# Altium footprint library benchtoppcblib.PcbLib: 18 footprints (part 1 of 2)
Each footprint in its own frame and in the unit in brackets; x right, y up, seen from the top. Pads: shape width x height; smd on the part's side, far side on the other; paste and mask are expansions set on the pad; w line width, h text height; cw(c..) or ccw(c..) is an arc to the next point about the centre after c.
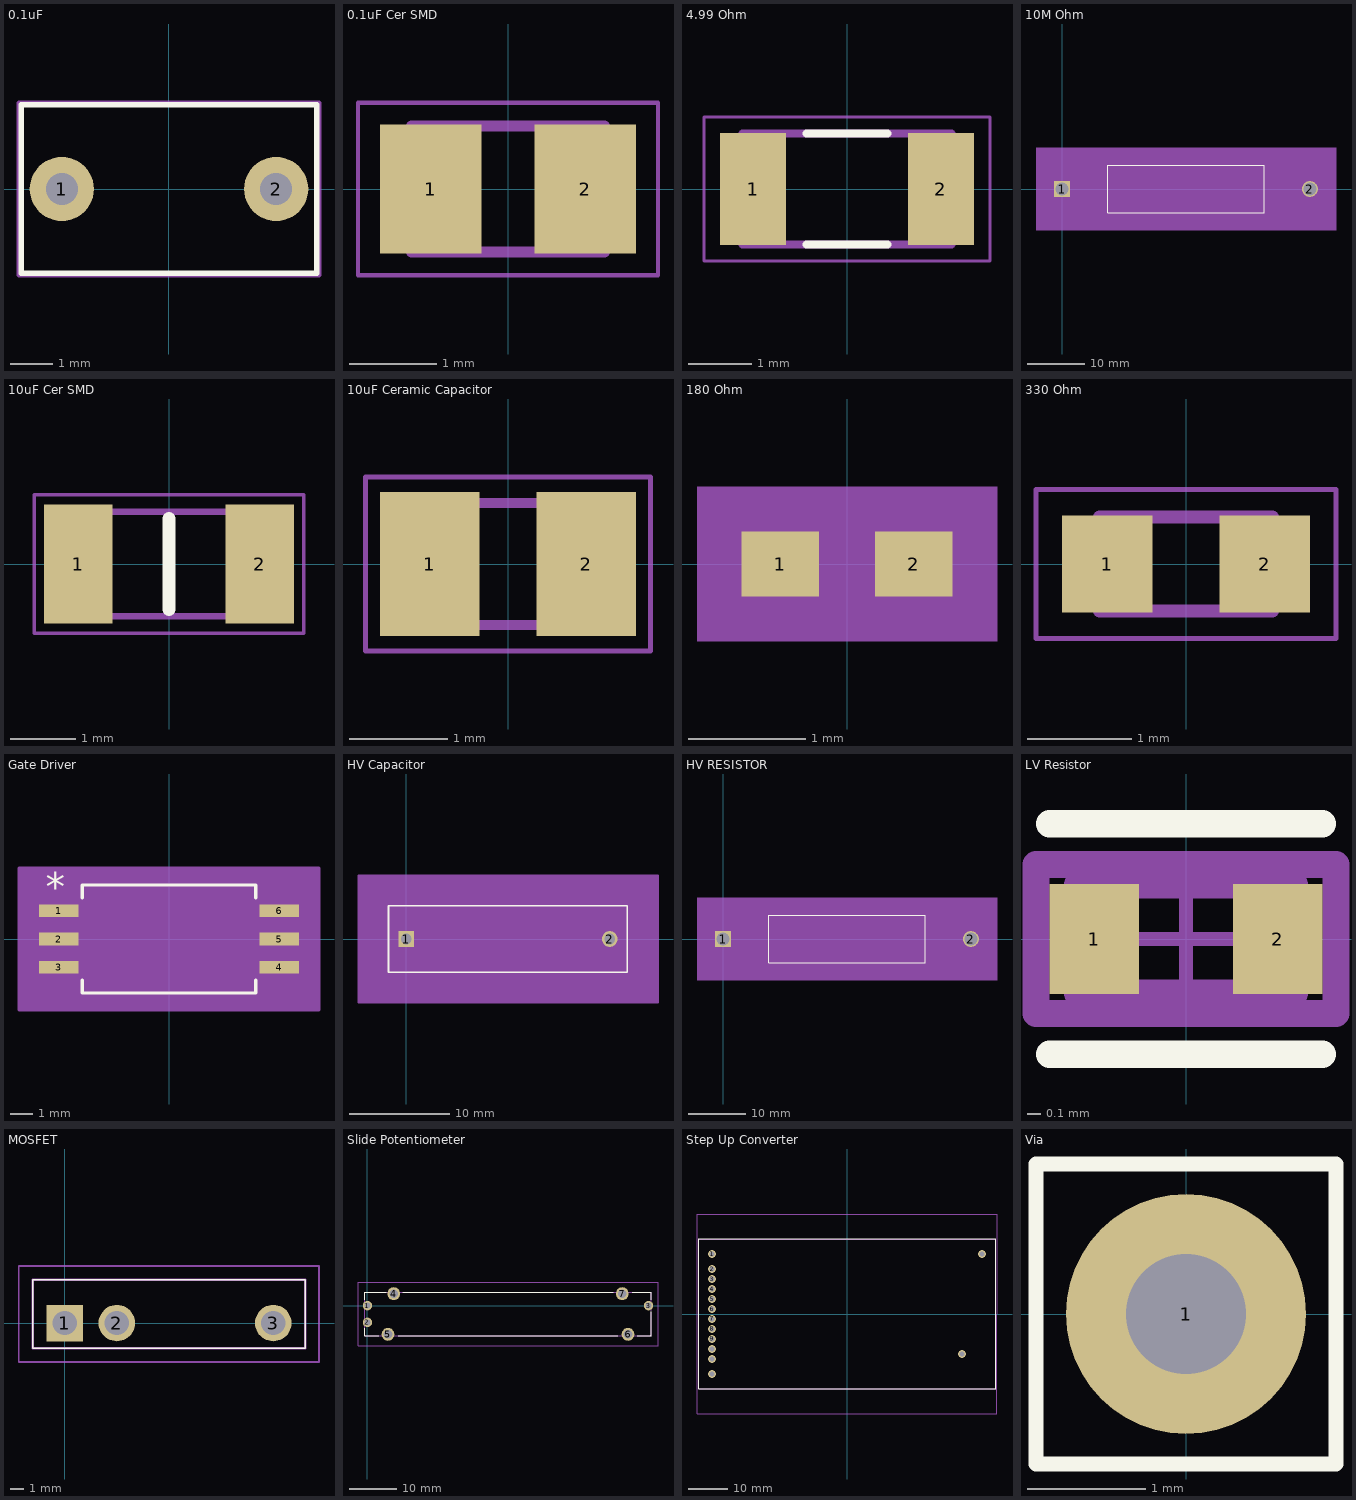
[diagram p0: the footprints below, top view; thin cyan lines are the x and y axes]

## 0.1uF [mil] "C322C104K5R5TA7305"
pads (2):
  round 60 hole 30: 1(-100,0) 2(100,0)
Top Overlay:
  lines w5: -137.8,-78.74 -137.8,78.74 137.8,78.74 137.8,-78.74 -137.8,-78.74
Mechanical 7:
  lines w5: -139.96,-80.12 -139.96,80.12 139.96,80.12 139.96,-80.12 -139.96,-80.12

## 0.1uF Cer SMD [mm] "CAPC2012X94N"
pads (2):
  rect 1.16x1.47 smd: 1(-0.88,0) 2(0.88,0)
Mechanical 13:
  lines w0.127: -1.1,-0.72 -1.1,0.72 1.1,0.72 1.1,-0.72 -1.1,-0.72
Mechanical 15:
  lines w0.05: -1.713,-0.983 -1.713,0.983 1.713,0.983 1.713,-0.983 -1.713,-0.983
3D body "step_temp.STEP": height 0.94, standoff 0, extent -1.005,-0.625 1.005,0.625

## 4.99 Ohm [mm] "RESC3116X65N"
pads (2):
  rect 1.05x1.77 smd: 1(-1.485,0) 2(1.485,0)
Top Overlay:
  lines w0.127: -0.64,-0.88 0.64,-0.88 ; -0.64,0.88 0.64,0.88
Mechanical 13:
  lines w0.127: -1.65,-0.88 1.65,-0.88 1.65,0.88 -1.65,0.88 -1.65,-0.88
Mechanical 15:
  lines w0.05: -2.26,-1.135 2.26,-1.135 2.26,1.135 -2.26,1.135 -2.26,-1.135
3D body "step_temp.STEP": height 0.65, standoff 0, extent -1.6,-0.8 1.6,0.8

## 10M Ohm [mil] "OH_MOX910_OHM"
pads (2):
  rect 110x110 hole 90 mask+0: 1(0,0)
  round 110 hole 90 mask+0: 2(1710,0)
Top Overlay:
  lines w6: 315,-165 1395,-165 1395,165 315,165 315,-165
Mechanical 5:
  region: 1890,-285 -180,-285 -180,285 1890,285
Mechanical 13:
  lines w1: 0,0 320,0 ; 1390,0 1710,0 ; 320,-160 1390,-160 1390,160 320,160 320,-160
Mechanical 15:
  region: 310,-65 -65,-65 -65,65 310,65 310,170 1400,170 1400,65 1775,65 1775,-65 1400,-65 1400,-170 310,-170
  lines w6: -65,-65 -65,65 310,65 310,170 1400,170 1400,65 1775,65 1775,-65 1400,-65 1400,-170 310,-170 310,-65 -65,-65
3D body: height 10, standoff 0, extent 0,0 10,10

## 10uF Cer SMD [mm] "CAPC3216X180N"
pads (2):
  rect 1.05x1.82 smd: 1(-1.39,0) 2(1.39,0)
Top Overlay:
  lines w0.2: 0,-0.7 0,0.7
Mechanical 13:
  lines w0.1: -1.6,-0.8 1.6,-0.8 1.6,0.8 -1.6,0.8 -1.6,-0.8
Mechanical 15:
  lines w0.05: -2.065,-1.06 2.065,-1.06 2.065,1.06 -2.065,1.06 -2.065,-1.06
3D body "CL31B106KQHNFNE.stp": height 1.8, standoff 0, extent -1.6,-0.8 1.6,0.8

## 10uF Ceramic Capacitor [mm] "C0805C106K3PAC7800"
pads (2):
  rect 1.02x1.47 smd: 1(-0.8,0) 2(0.8,0)
Mechanical 13:
  lines w0.1: -1,-0.625 1,-0.625 1,0.625 -1,0.625 -1,-0.625
Mechanical 15:
  lines w0.05: -1.46,-0.89 1.46,-0.89 1.46,0.89 -1.46,0.89 -1.46,-0.89
3D body "C0805C106K3PACTU.stp": height 1.45, standoff 0, extent -1,-0.625 1,0.625

## 180 Ohm [mil] "RES_RK73H1E_KOA"
pads (2):
  rect 26x22 smd paste+0 mask+0: 1(-22.5,0) 2(22.5,0)
Mechanical 5:
  region: 50.5,-26 -50.5,-26 -50.5,26 50.5,26
Mechanical 13:
  lines w1: -21.5,-11 -21.5,11 ; -21.5,-11 -9.5,-11 -9.5,11 -21.5,11 ; -21.5,-11 21.5,-11 ; -21.5,-11 -21.5,11 ; -21.5,11 21.5,11 ; 21.5,-11 9.5,-11 9.5,11 21.5,11 ; 21.5,-11 21.5,11 ; 21.5,-11 21.5,11
Mechanical 15:
  region: 45.5,-21 -45.5,-21 -45.5,21 45.5,21
  lines w6: -45.5,-21 -45.5,21 45.5,21 45.5,-21 -45.5,-21
3D body: height 10, standoff 0, extent 0,0 10,10

## 330 Ohm [mm] "RESC1508X55N"
pads (2):
  rect 0.87x0.93 smd: 1(-0.755,0) 2(0.755,0)
Mechanical 13:
  lines w0.127: -0.83,-0.45 -0.83,0.45 0.83,0.45 0.83,-0.45 -0.83,-0.45
Mechanical 15:
  lines w0.05: -1.44,-0.715 -1.44,0.715 1.44,0.715 1.44,-0.715 -1.44,-0.715

## Gate Driver [mil] "ADuM4120"
pads (6):
  rect 69.53x22.08 smd paste+0 mask+0: 1(-194.13,50) 2(-194.13,0) 3(-194.13,-50) 4(194.13,-50) 5(194.13,0) 6(194.13,50)
Top Overlay:
  lines w6: -152.64,-72.28 -152.64,-95.06 152.64,-95.06 152.64,-72.28 ; -152.64,72.28 -152.64,95.06 152.64,95.06 152.64,72.28
  text "*" at -216.63,67.08 h50
Mechanical 5:
  region: 263.89,-125.06 -263.89,-125.06 -263.89,125.06 263.89,125.06
Mechanical 13:
  lines w0: -12,90.06 ccw(c0,90.06) 12,90.06
  lines w1: -206.89,-60.04 -206.89,-39.96 -147.64,-39.96 -147.64,-60.04 -206.89,-60.04 ; -206.89,-10.04 -206.89,10.04 -147.64,10.04 -147.64,-10.04 -206.89,-10.04 ; -206.89,39.96 -206.89,60.04 -147.64,60.04 -147.64,39.96 -206.89,39.96 ; -147.64,-90.06 147.64,-90.06 147.64,90.06 -147.64,90.06 -147.64,-90.06 ; 147.64,-60.04 147.64,-39.96 206.89,-39.96 206.89,-60.04 147.64,-60.04 ; 147.64,-10.04 147.64,10.04 206.89,10.04 206.89,-10.04 147.64,-10.04 ; 147.64,39.96 147.64,60.04 206.89,60.04 206.89,39.96 147.64,39.96
  text "*" at -145.14,37.06 h50
Mechanical 15:
  region: -167.64,-81.04 -248.89,-81.04 -248.89,81.04 -167.64,81.04 -167.64,110.06 167.64,110.06 167.64,81.04 248.89,81.04 248.89,-81.04 167.64,-81.04 167.64,-110.06 -167.64,-110.06
  lines w5: -263.78,-125 -263.78,125 263.78,125 263.78,-125 -263.78,-125
  lines w6: 167.64,81.04 167.64,110.06 -167.64,110.06 -167.64,81.04 -248.89,81.04 -248.89,-81.04 -167.64,-81.04 -167.64,-110.06 167.64,-110.06 167.64,-81.04 248.89,-81.04
3D body: height 10, standoff 0, extent 0,0 10,10

## HV Capacitor [mil] "SV17_AVX"
pads (2):
  rect 62x62 hole 42 mask+0: 1(0,0)
  round 62 hole 42 mask+0: 2(800,0)
Top Overlay:
  lines w6: -70,-130 870,-130 870,130 -70,130 -70,-130
Mechanical 5:
  region: 990,-250 -190,-250 -190,250 990,250
Mechanical 13:
  lines w1: -65,-125 -65,125 865,125 865,-125 -65,-125
Mechanical 15:
  region: 875,-135 -75,-135 -75,135 875,135
  lines w5: -189.96,-250 -189.96,250 990.16,250 990.16,-250 -189.96,-250
  lines w6: -75,-135 -75,135 875,135 875,-135 -75,-135
3D body: height 10, standoff 0, extent 0,0 10,10

## HV RESISTOR [mil]
pads (2):
  rect 110x110 hole 90 mask+0: 1(0,0)
  round 110 hole 90 mask+0: 2(1710,0)
Top Overlay:
  lines w6: 315,-165 315,165 1395,165 1395,-165 315,-165
Mechanical 5:
  region: 1890,-285 -180,-285 -180,285 1890,285
Mechanical 13:
  lines w1: 0,0 320,0 ; 1390,0 1710,0 ; 320,-160 320,160 1390,160 1390,-160 320,-160
Mechanical 15:
  region: 310,-65 -65,-65 -65,65 310,65 310,170 1400,170 1400,65 1775,65 1775,-65 1400,-65 1400,-170 310,-170
  lines w6: -65,-65 310,-65 310,-170 1400,-170 1400,-65 1775,-65 1775,65 1400,65 1400,170 310,170 310,65 -65,65 -65,-65
3D body: height 10, standoff 0, extent 0,0 10,10

## LV Resistor [mil] "Yageo_AC0603_IPC_C"
pads (2):
  rect 25.93x31.97 smd paste+0 mask+0: 1(-26.64,0) 2(26.64,0)
Top Overlay:
  lines w7.87: -39.61,-33.46 39.61,-33.46 ; -39.61,33.46 39.61,33.46
Mechanical 10:
  lines w7.87: -43.55,-21.65 -43.55,21.65 43.55,21.65 43.55,-21.65 -43.55,-21.65
  text ".Designator" at 0,7.39 h39.37
Mechanical 12:
  lines w7.87: -31.5,-15.75 -31.5,15.75 31.5,15.75 31.5,-15.75 -31.5,-15.75
Mechanical 15:
  lines w3.94: -19.68,0 19.68,0 ; 0,-19.68 0,19.68
  lines w7.87: -43.55,-21.65 -43.55,21.65 43.55,21.65 43.55,-21.65 -43.55,-21.65
3D body "Res_Yageo_AC0603DR-0710KL_eec.STEP": height 10, standoff 0, extent -43.55,-21.65 43.55,21.65

## MOSFET [mm]
pads (3):
  rect 2.67x2.67 hole 1.78: 1(0,0)
  round 2.67 hole 1.78: 2(3.81,0) 3(15.24,0)
Top Overlay:
  lines w0.127: -2.34,-1.85 -2.34,3.17 17.58,3.17 17.58,-1.85 -2.34,-1.85
Mechanical 13:
  lines w0.2: -2.34,-1.85 -2.34,3.17 17.58,3.17 17.58,-1.85 -2.34,-1.85
Mechanical 15:
  lines w0.1: -3.34,-2.85 -3.34,4.17
  lines w0.127: -3.34,-2.85 18.58,-2.85 18.58,4.17 -3.34,4.17
3D body "IXTL2N450.stp": height 26.52, standoff -5, extent -2.34,-1.85 17.58,3.17

## Slide Potentiometer [mm] "PS4510MA1BR500"
pads (7):
  round 1.95 hole 1.3: 1(0,0) 2(0,-3.5) 3(58.8,0)
  round 2.7 hole 1.8: 4(5.5,2.5) 5(4.3,-6) 6(54.5,-6) 7(53.3,2.5)
Top Overlay:
  lines w0.127: -0.6,-4.75 -0.6,-6.25 2.4,-6.25 ; -0.6,1.25 -0.6,2.75 3.9,2.75 ; 6.4,-6.25 52.4,-6.25 ; 7.4,2.75 51.4,2.75 ; 55.4,2.75 59.4,2.75 59.4,1.25 ; 56.4,-6.25 59.4,-6.25 59.4,-1.25
Mechanical 13:
  lines w0.2: -0.6,-6.25 59.4,-6.25 59.4,2.75 -0.6,2.75 -0.6,-6.25
Mechanical 15:
  lines w0.127: -1.975,-8.35 60.775,-8.35 60.775,4.85 -1.975,4.85 -1.975,-8.35
3D body "PS45-10MA1BR500.stp": height 15.1, standoff -5, extent -0.6,-6.798 59.4,3.298

## Step Up Converter [mil] "HRL30"
pads (14):
  round 80 hole 50: 1(-1350.43,600.7) 2(-1350.43,450.7) 3(-1350.43,350.7) 4(-1350.43,250.7) 5(-1350.43,150.7) 6(-1350.43,50.7) 7(-1350.43,-49.3) 8(-1350.43,-149.3) 9(-1350.43,-249.3) 10(-1350.43,-349.3) 11(-1350.43,-449.3) 12(-1350.43,-599.3) 13(1149.57,-399.3) 14(1349.57,600.7)
Top Overlay:
  lines w5: -1485,-749 -1485,751 1485,751 1485,-749 -1485,-749
Mechanical 13:
  lines w10: -1485.43,-749.3 1484.57,-749.3 1484.57,750.7 -1485.43,750.7 -1485.43,-749.3
Mechanical 15:
  lines w10: -1500.43,-999.3 1499.57,-999.3 1499.57,1000.7 -1500.43,1000.7 -1500.43,-999.3

## Via [mil]
pads (1):
  round 80 hole 40: 1(0,0)
Top Overlay:
  lines w5: -50,-50 -50,50 50,50 50,-50 -50,-50